# Altium schematic symbol library microMatch4.SchLib: 1 symbol
Pins are listed as number, name and electrical type; pins without a type are passive.

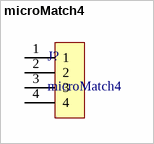
[diagram p0: symbol microMatch4]

## microMatch4
designator J?
footprint microM4 (Footprint not found)
footprint MICRO-MATCH-FOB-04
pins: 1, 2, 3, 4